# EAGLE library part LR1110 (library IC_Wireless-RF)
Low Power Wi-Fi/ GNSS Scanner + LoRa® Transceiver Datasheet <https://semtech.my.salesforce.com/sfc/p/#E0000000JelG/a/2R000000Q2YY/7hyal8gUewWREN8DSEk5R3Ee8OpqEuVOdsHpiAHb3jo> Product Page <https://www.semtech.com/products/wireless-rf/lora-edge/lr1110>
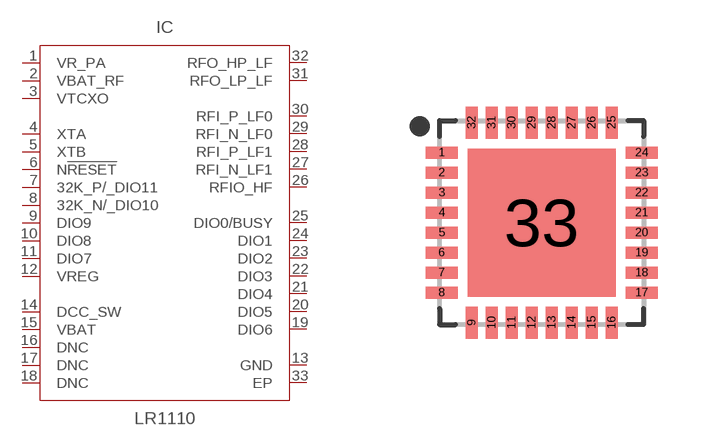
[diagram p18: symbol with the pads of QFN50P500X500X100-33T370; footprint QFN50P500X500X100-33T370]

Designator prefix IC

## LR1110 (CATEGORY: IC_Wireless-RF; DESCRIPTION: LONG RANGE, WI-FI LOC LORA TRANS; FREQUENCY: 150 - 2700 MHz; MANUFACTURER: Semtech; MPN: LR1110IMLTRT; OPERATING_TEMP: -40°C to 85°C; PART_STATUS: Active; SERIES: LR1110; SUB-CATEGORY: Transceiver; TYPE: LoRa Edge™; VALUE: LR1110)  [QFN50P500X500X100-33T370]
1  VR_PA  out
2  VBAT_RF  in
3  VTCXO  out
4  XTA  in
5  XTB  in
6  N!RESET!  in
7  32K_P/_DIO11
8  32K_N/_DIO10
9  DIO9
10  DIO8
11  DIO7
12  VREG  out
13  GND  pwr
14  DCC_SW  out
15  VBAT  in
16  DNC  nc
17  DNC  nc
18  DNC  nc
19  DIO6
20  DIO5
21  DIO4
22  DIO3
23  DIO2
24  DIO1
25  DIO0/BUSY
26  RFIO_HF
27  RFI_N_LF1  in
28  RFI_P_LF1  in
29  RFI_N_LF0  in
30  RFI_P_LF0  in
31  RFO_LP_LF
32  RFO_HP_LF
33  EP  pwr

## Footprint QFN50P500X500X100-33T370 (pad centres in mm)
32-QFN, 0.50 mm pitch, 5.00 X 5.00 X 1.00 mm body, 3.70 X 3.70 mm thermal pad 32-pin QFN package with 0.50 mm pitch with body size 5.00 X 5.00 X 1.00 mm and thermal pad size 3.70 X 3.70 mm
smd 0.8 x 0.3: 1 -2.5,1.75; 2 -2.5,1.25; 3 -2.5,0.75; 4 -2.5,0.25; 5 -2.5,-0.25; 6 -2.5,-0.75; 7 -2.5,-1.25; 8 -2.5,-1.75; 17 2.5,-1.75; 18 2.5,-1.25; 19 2.5,-0.75; 20 2.5,-0.25; 21 2.5,0.25; 22 2.5,0.75; 23 2.5,1.25; 24 2.5,1.75
smd 0.3 x 0.8: 9 -1.75,-2.5; 10 -1.25,-2.5; 11 -0.75,-2.5; 12 -0.25,-2.5; 13 0.25,-2.5; 14 0.75,-2.5; 15 1.25,-2.5; 16 1.75,-2.5; 25 1.75,2.5; 26 1.25,2.5; 27 0.75,2.5; 28 0.25,2.5; 29 -0.25,2.5; 30 -0.75,2.5; 31 -1.25,2.5; 32 -1.75,2.5
smd 3.7 x 3.7: 33 0,0